# EAGLE library part LSM6DSL (library lsm6dsl)
LSM6DSL iNEMO inertial module: always-on 3D accelerometer and 3D gyroscope The LSM6DSL is a system-in-package featuring a 3D digital accelerometer and a 3D digital gyroscope performing at 0.65 mA in high-performance mode and enabling always-on low-power features for an optimal motion experience for the consumer. The LSM6DSL supports main OS requirements, offering real, virtual and batch sensors with 4 kbyte for dynamic data batching. ST’s family of MEMS sensor modules leverages the robust and mature manufacturing processes already used for the production of micromachined accelerometers and gyroscopes. The various sensing elements are manufactured using specialized micromachining processes, while the IC interfaces are developed using CMOS technology that allows the design of a dedicated circuit which is trimmed to better match the characteristics of the sensing element. The LSM6DSL has a full-scale acceleration range of ±2/±4/±8/±16 g and an angular rate range of ±125/±250/±500/±1000/±2000 dps. High robustness to mechanical shock makes the LSM6DSL the preferred choice of system designers for the creation and manufacturing of reliable products.
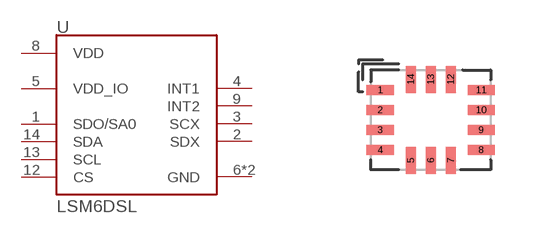
[diagram p0: symbol with the pads of LGA14; footprint LGA14]

Designator prefix U

## LSM6DSL (MFR: STM; MFR_PN: LSM6DSLTR)  [LGA14]
1  SDO/SA0
2  SDX
3  SCX
4  INT1
5  VDD_IO  pwr
6  GND  pwr
7  GND  pwr
8  VDD  pwr
9  INT2
12  CS
13  SCL
14  SDA

## Footprint LGA14 (pad centres in mm)
smd 0.675 x 0.25: 1 -1.262,0.75; 2 -1.262,0.25; 3 -1.262,-0.25; 4 -1.262,-0.75; 8 1.262,-0.75; 9 1.262,-0.25; 10 1.262,0.25; 11 1.262,0.75
smd 0.25 x 0.675: 5 -0.5,-1.012; 6 0,-1.012; 7 0.5,-1.012; 12 0.5,1.012; 13 0,1.012; 14 -0.5,1.012